# Altium footprint library SAMTEC_QSS-025-X-X-D-A.PcbLib: 1 footprints
Each footprint in its own frame and in the unit in brackets; x right, y up, seen from the top. Pads: shape width x height; smd on the part's side, far side on the other; paste and mask are expansions set on the pad; w line width, h text height; cw(c..) or ccw(c..) is an arc to the next point about the centre after c.
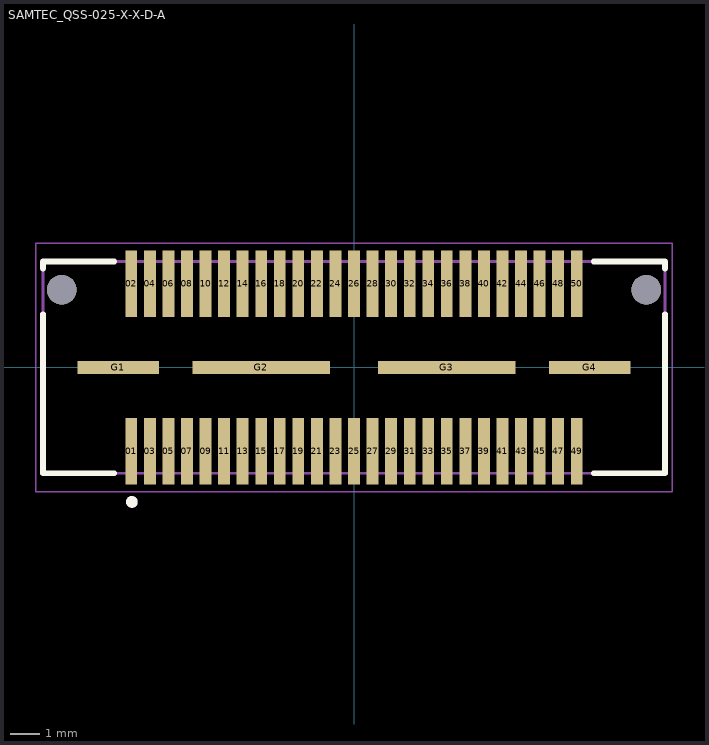
[diagram p0: the footprint, top view; thin cyan lines are the x and y axes]

## SAMTEC_QSS-025-X-X-D-A [mm]
height 3.43
pads (56):
  rect 0.406x2.273 smd: 01(-7.62,-2.865) 02(-7.62,2.865) 03(-6.985,-2.865) 04(-6.985,2.865) 05(-6.35,-2.865) 06(-6.35,2.865) 07(-5.715,-2.865) 08(-5.715,2.865) 09(-5.08,-2.865) 10(-5.08,2.865) 11(-4.445,-2.865) 12(-4.445,2.865) 13(-3.81,-2.865) 14(-3.81,2.865) 15(-3.175,-2.865) 16(-3.175,2.865) 17(-2.54,-2.865) 18(-2.54,2.865) 19(-1.905,-2.865) 20(-1.905,2.865) 21(-1.27,-2.865) 22(-1.27,2.865) 23(-0.635,-2.865) 24(-0.635,2.865) 25(0,-2.865) 26(0,2.865) 27(0.635,-2.865) 28(0.635,2.865) 29(1.27,-2.865) 30(1.27,2.865) 31(1.905,-2.865) 32(1.905,2.865) 33(2.54,-2.865) 34(2.54,2.865) 35(3.175,-2.865) 36(3.175,2.865) 37(3.81,-2.865) 38(3.81,2.865) 39(4.445,-2.865) 40(4.445,2.865) 41(5.08,-2.865) 42(5.08,2.865) 43(5.715,-2.865) 44(5.715,2.865) 45(6.35,-2.865) 46(6.35,2.865) 47(6.985,-2.865) 48(6.985,2.865) 49(7.62,-2.865) 50(7.62,2.865)
  rect 2.794x0.432 smd: G1(-8.064,0) G4(8.064,0)
  rect 4.699x0.432 smd: G2(-3.175,0) G3(3.175,0)
  round 1.016 hole 1.016 unplated: ""(-10,2.657) ""(10,2.657)
Top Overlay:
  circle w0.2: c-7.6,-4.6 r0.1
  lines w0.2: -10.635,1.82 -10.635,-3.619 -8.2,-3.619 ; -10.635,3.381 -10.635,3.619 -8.2,3.619 ; 8.2,-3.619 10.635,-3.619 10.635,1.82 ; 8.2,3.619 10.635,3.619 10.635,3.381
Mechanical 13:
  circle w0.2: c-7.6,-4.6 r0.1
  lines w0.1: -10.635,-3.619 10.635,-3.619 10.635,3.619 -10.635,3.619 -10.635,-3.619
Mechanical 15:
  lines w0.05: -10.885,-4.252 -10.885,4.252 10.885,4.252 10.885,-4.252 -10.885,-4.252
3D body "QSS-025-01-L-D-A.stp": height 3.63, standoff -0.75, extent -10.643,-3.746 10.643,3.746